# EAGLE library part 219-3MST (library 219-3MST)
DIP Switches / SIP Switches SPST 3 switch sections Source: Datasheet <https://www.ctscorp.com/wp-content/uploads/219.pdf>
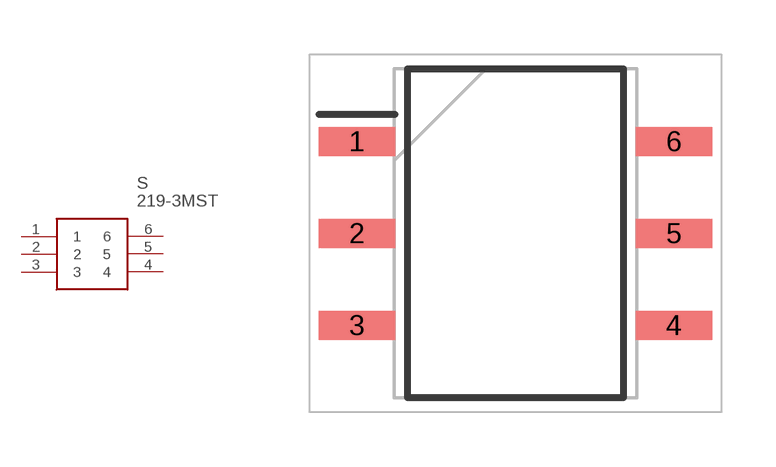
[diagram p0: symbol with the pads of SOP254P991X385-6N; footprint SOP254P991X385-6N]

Designator prefix S

## 219-3MST (Description: DIP Switches / SIP Switches SPST 3 switch sections; Height: 3.85mm; Manufacturer_Name: CTS; Manufacturer_Part_Number: 219-3MST; Mouser_Part_Number: 774-2193MST; Mouser_Price-Stock: https://www.mouser.co.uk/ProductDetail/CTS-Electronic-Components/219-3MST?qs=qNzHFtQhdJ%252BjqtkfP9tB7g%3D%3D)  [SOP254P991X385-6N]
1  1
2  2
3  3
4  4
5  5
6  6

## Footprint SOP254P991X385-6N (pad centres in mm)
219-3MST
smd 2.1 x 0.8: 1 -4.375,2.54; 2 -4.375,0; 3 -4.375,-2.54; 4 4.375,-2.54; 5 4.375,0; 6 4.375,2.54